# Altium integrated library LM311DE4.IntLib: 1 symbol
Pins are listed as number, name and electrical type; pins without a type are passive.

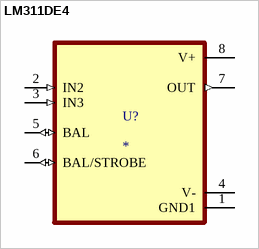
[diagram p0: symbol LM311DE4]

## LM311DE4
designator U?
High Speed, 30V, Differential Comparator With Strobes 8-SOIC 0 to 70; MP: LM311DE4; MF: Texas Instruments; Package: SOIC-8 Texas Instruments; SnapEDA_Link: https://www.snapeda.com/parts/LM311DE4/Texas+Instruments/view-part/?ref=snap; Check_prices: https://www.snapeda.com/parts/LM311DE4/Texas+Instruments/view-part/?ref=eda; Value: *; Purchase-URL: https://pricing.snapeda.com/search/part/LM311DE4/?ref=eda; Digi-Key_Part_Number: 2156-LM311DE4-ND
footprint SOIC127P599X175-8N
pins: 1 GND1 (power), 2 IN2 (in), 3 IN3 (in), 4 V- (power), 5 BAL (io), 6 BAL/STROBE (io), 7 OUT (out), 8 V+ (power)